# EAGLE library part GND-16 (library home-mind)
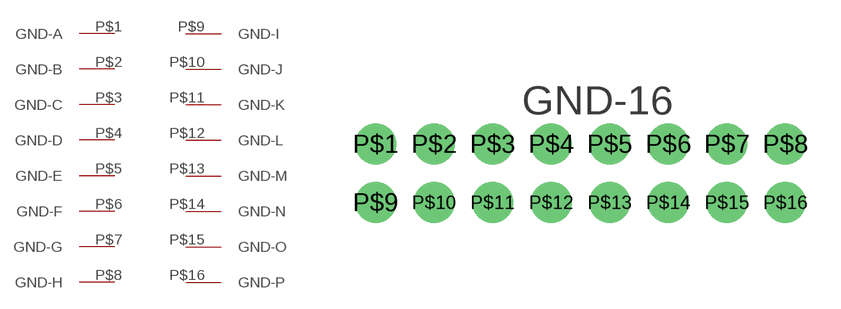
[diagram p3: symbol with the pads of GND-16; footprint GND-16]

Designator prefix -

## GND-16  [GND-16]
P$1  GND-A
P$2  GND-B
P$3  GND-C
P$4  GND-D
P$5  GND-E
P$6  GND-F
P$7  GND-G
P$8  GND-H
P$9  GND-I
P$10  GND-J
P$11  GND-K
P$12  GND-L
P$13  GND-M
P$14  GND-N
P$15  GND-O
P$16  GND-P

## Footprint GND-16 (pad centres in mm)
drill 0.9 pad 1.778: P$1 0,0; P$2 2.54,0; P$3 5.08,0; P$4 7.62,0; P$5 10.16,0; P$6 12.7,0; P$7 15.24,0; P$8 17.78,0; P$9 0,-2.54; P$10 2.54,-2.54; P$11 5.08,-2.54; P$12 7.62,-2.54; P$13 10.16,-2.54; P$14 12.7,-2.54; P$15 15.24,-2.54; P$16 17.78,-2.54